# Altium integrated library TI Data Converters Analog to Digital Converter.IntLib: 2197 symbols (part 130 of 168)
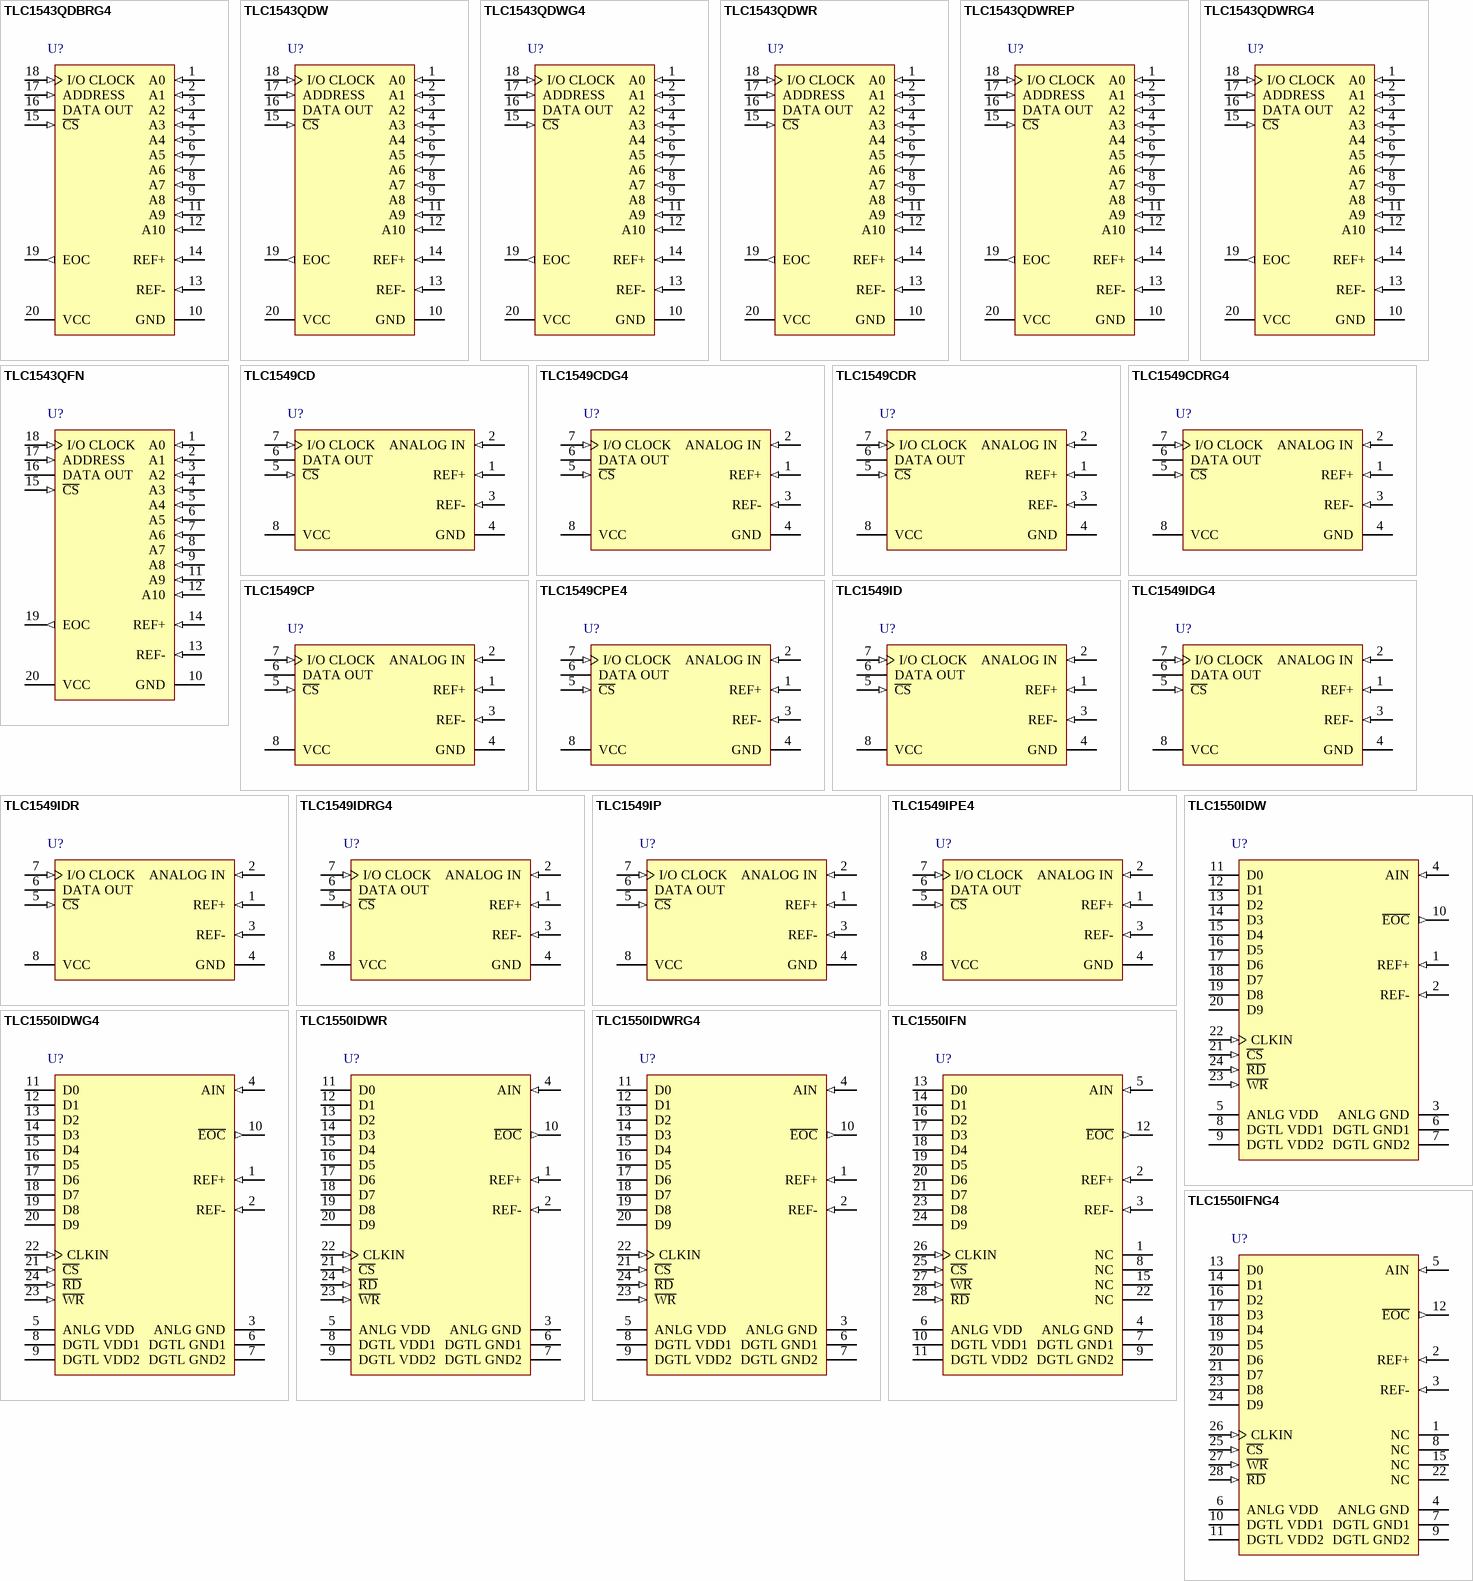
[diagram p255: symbols TLC1543QDBRG4 to TLC1550IFNG4]

## TLC1543QDWRG4
designator U?
10-Bit, 38 kSPS ADC Serial Out, On-Chip System Clock, 11 Channel, -40 to 125 degC, 20-pin SOIC (DW20), Green (RoHS & no Sb/Br); Manufacturer: Texas Instruments; PartNumber: TLC1543QDWRG4; # Input Channels: 11; Analog Voltage AV/DD(Max)(V): 5.5; Analog Voltage AV/DD(Min)(V): 4.5; Architecture: SAR; INL(Max)(+/-LSB): 1; Interface: Serial SPI; Resolution(Bits): 10; Sample Rate (max)(SPS): 38k; SubFamily: Precision ADC (<=10MSPS); DatasheetVersion: SLAS052G; PackageVersion: 4040000-4/G, 01/2011; PackageReference: DW20; PackageDescription: 20-Pin Plastic Small Outline, Body 12.8 x 7.5 mm, Pitch 1.27 mm; Supplier 1: Digi-Key; Supplier Part Number 1: TLC1543CDBRG4-ND; Supplier 2: Mouser; Supplier Part Number 2: 595-TLC1543CDBRG4; Digital Supply(Max)(V): 5.5; Digital Supply(Min)(V): 4.5; Eco-Plan: Green (RoHS & no Sb/Br); Mounting Technology: Surface Mount; Code_JEDEC: MO-013; ComponentLink1Description: Manufacturer URL; ComponentLink1URL: http://www.ti.com/; ComponentLink2Description: Datasheet; ComponentLink2URL: http://www.ti.com/general/docs/lit/getliterature.tsp?genericPartNumber=TLC1543&fileType=pdf; ComponentLink3Description: Package Specification; ComponentLink3URL: http://www.ti.com/lit/ml/mpds173a/mpds173a.pdf
footprint TI-DW20_N (SOIC, 20-Leads, Body 12.8x7.5mm, Pitch 1.27mm, IPC Medium Density)
footprint TI-DW20_L (SOIC, 20-Leads, Body 12.8x7.5mm, Pitch 1.27mm, IPC High Density)
footprint TI-DW20_M (SOIC, 20-Leads, Body 12.8x7.5mm, Pitch 1.27mm, IPC Low Density)
pins: 1 A0 (in) "Analog signal inputs. The 11 analog inputs are applied to these terminals and are internally multiplexed. The driving source impedance should be less than or equal to 1 kohm.", 2 A1 (in) "Analog signal inputs. The 11 analog inputs are applied to these terminals and are internally multiplexed. The driving source impedance should be less than or equal to 1 kohm.", 3 A2 (in) "Analog signal inputs. The 11 analog inputs are applied to these terminals and are internally multiplexed. The driving source impedance should be less than or equal to 1 kohm.", 4 A3 (in) "Analog signal inputs. The 11 analog inputs are applied to these terminals and are internally multiplexed. The driving source impedance should be less than or equal to 1 kohm.", 5 A4 (in) "Analog signal inputs. The 11 analog inputs are applied to these terminals and are internally multiplexed. The driving source impedance should be less than or equal to 1 kohm.", 6 A5 (in) "Analog signal inputs. The 11 analog inputs are applied to these terminals and are internally multiplexed. The driving source impedance should be less than or equal to 1 kohm.", 7 A6 (in) "Analog signal inputs. The 11 analog inputs are applied to these terminals and are internally multiplexed. The driving source impedance should be less than or equal to 1 kohm.", 8 A7 (in) "Analog signal inputs. The 11 analog inputs are applied to these terminals and are internally multiplexed. The driving source impedance should be less than or equal to 1 kohm.", 9 A8 (in) "Analog signal inputs. The 11 analog inputs are applied to these terminals and are internally multiplexed. The driving source impedance should be less than or equal to 1 kohm.", 10 GND (power) "The ground return terminal for the internal circuitry. Unless otherwise noted, all voltage measurements are with respect to this terminal.", 11 A9 (in) "Analog signal inputs. The 11 analog inputs are applied to these terminals and are internally multiplexed. The driving source impedance should be less than or equal to 1 kohm.", 12 A10 (in) "Analog signal inputs. The 11 analog inputs are applied to these terminals and are internally multiplexed. The driving source impedance should be less than or equal to 1 kohm.", 13 REF- (in) "The lower reference voltage value (nominally ground) is applied to this terminal.", 14 REF+ (in) "The upper reference voltage value (nominally VCC) is applied to this terminal. The maximum input voltage range is determined by the difference between the voltage applied to this terminal and the voltage applied to the REF- (See Datasheet)", 15 ~{CS} (in) "Chip select. A high-to-low transition on this input resets the internal counters and controls and enables DATA OUT, ADDRESS, and I/O CLOCK within a maximum of a setup time plus two falling edges of the internal system clock. (See Datasheet)", 16 DATA OUT (hiz) "The 3-state serial output for the A/D conversion result. This output is in the high-impedance state when C\S\ is high and active when C\S\ is low. With a valid chip select, DATA OUT is removed from the high-impedance state (See Datasheet)", 17 ADDRESS (in) "Serial address input. A 4-bit serial address selects the desired analog input or test voltage that is to be converted next. The address data is presented with the MSB first and shifts in on the first four rising edges of I/O (See Datasheet)", 18 I/O CLOCK (in) "Input/output clock. This terminal receives the serial I/O CLOCK input and performs the following four functions: 1) It clocks the four input address bits into the address register on the first four rising edges of the I/O (See Datasheet)", 19 EOC (out) "End of conversion. This output goes from a high to a low logic level on the trailing edge of the tenth I/O CLOCK and remains low until the conversion is complete and data are ready for transfer.", 20 VCC (power) "Positive supply voltage"

## TLC1543QFN
designator U?
10-Bit, 38 kSPS ADC Serial Out, On-Chip System Clock, 11 Channel, -40 to 125 degC, 20-pin PLCC (FN20), Green (RoHS & no Sb/Br); Manufacturer: Texas Instruments; PartNumber: TLC1543QFN; # Input Channels: 11; Analog Voltage AV/DD(Max)(V): 5.5; Analog Voltage AV/DD(Min)(V): 4.5; Architecture: SAR; INL(Max)(+/-LSB): 1; Interface: Serial SPI; Resolution(Bits): 10; Sample Rate (max)(SPS): 38k; SubFamily: Precision ADC (<=10MSPS); DatasheetVersion: SLAS052G; PackageVersion: 4040005/B, 03/1995; PackageReference: FN20; PackageDescription: 20-Pin Plastic Chip Carrier, Body 8.965 x 8.965 mm, Pitch 1.27 mm; Supplier 1: Digi-Key; Supplier Part Number 1: 296-1804-5-ND; Supplier 2: Farnell; Supplier Part Number 2: 4576603; Supplier 3: Newark; Supplier Part Number 3: 90B1233; Supplier 4: Mouser; Supplier Part Number 4: 595-TLC1543CDW; Digital Supply(Max)(V): 5.5; Digital Supply(Min)(V): 4.5; Eco-Plan: Green (RoHS & no Sb/Br); Mounting Technology: Surface Mount; Code_JEDEC: MS-018; ComponentLink1Description: Manufacturer URL; ComponentLink1URL: http://www.ti.com/; ComponentLink2Description: Datasheet; ComponentLink2URL: http://www.ti.com/general/docs/lit/getliterature.tsp?genericPartNumber=TLC1543&fileType=pdf; ComponentLink3Description: Package Specification; ComponentLink3URL: http://www.ti.com/litv/pdf/mplc004a
footprint TI-FN20_N (PLCC, 20-Leads, Body 8.965x8.965mm, Pitch 1.27mm, IPC Medium Density)
footprint TI-FN20_L (PLCC, 20-Leads, Body 8.965x8.965mm, Pitch 1.27mm, IPC High Density)
footprint TI-FN20_M (PLCC, 20-Leads, Body 8.965x8.965mm, Pitch 1.27mm, IPC Low Density)
pins: 1 A0 (in) "Analog signal inputs. The 11 analog inputs are applied to these terminals and are internally multiplexed. The driving source impedance should be less than or equal to 1 kohm.", 2 A1 (in) "Analog signal inputs. The 11 analog inputs are applied to these terminals and are internally multiplexed. The driving source impedance should be less than or equal to 1 kohm.", 3 A2 (in) "Analog signal inputs. The 11 analog inputs are applied to these terminals and are internally multiplexed. The driving source impedance should be less than or equal to 1 kohm.", 4 A3 (in) "Analog signal inputs. The 11 analog inputs are applied to these terminals and are internally multiplexed. The driving source impedance should be less than or equal to 1 kohm.", 5 A4 (in) "Analog signal inputs. The 11 analog inputs are applied to these terminals and are internally multiplexed. The driving source impedance should be less than or equal to 1 kohm.", 6 A5 (in) "Analog signal inputs. The 11 analog inputs are applied to these terminals and are internally multiplexed. The driving source impedance should be less than or equal to 1 kohm.", 7 A6 (in) "Analog signal inputs. The 11 analog inputs are applied to these terminals and are internally multiplexed. The driving source impedance should be less than or equal to 1 kohm.", 8 A7 (in) "Analog signal inputs. The 11 analog inputs are applied to these terminals and are internally multiplexed. The driving source impedance should be less than or equal to 1 kohm.", 9 A8 (in) "Analog signal inputs. The 11 analog inputs are applied to these terminals and are internally multiplexed. The driving source impedance should be less than or equal to 1 kohm.", 10 GND (power) "The ground return terminal for the internal circuitry. Unless otherwise noted, all voltage measurements are with respect to this terminal.", 11 A9 (in) "Analog signal inputs. The 11 analog inputs are applied to these terminals and are internally multiplexed. The driving source impedance should be less than or equal to 1 kohm.", 12 A10 (in) "Analog signal inputs. The 11 analog inputs are applied to these terminals and are internally multiplexed. The driving source impedance should be less than or equal to 1 kohm.", 13 REF- (in) "The lower reference voltage value (nominally ground) is applied to this terminal.", 14 REF+ (in) "The upper reference voltage value (nominally VCC) is applied to this terminal. The maximum input voltage range is determined by the difference between the voltage applied to this terminal and the voltage applied to the REF- (See Datasheet)", 15 ~{CS} (in) "Chip select. A high-to-low transition on this input resets the internal counters and controls and enables DATA OUT, ADDRESS, and I/O CLOCK within a maximum of a setup time plus two falling edges of the internal system clock. (See Datasheet)", 16 DATA OUT (hiz) "The 3-state serial output for the A/D conversion result. This output is in the high-impedance state when C\S\ is high and active when C\S\ is low. With a valid chip select, DATA OUT is removed from the high-impedance state (See Datasheet)", 17 ADDRESS (in) "Serial address input. A 4-bit serial address selects the desired analog input or test voltage that is to be converted next. The address data is presented with the MSB first and shifts in on the first four rising edges of I/O (See Datasheet)", 18 I/O CLOCK (in) "Input/output clock. This terminal receives the serial I/O CLOCK input and performs the following four functions: 1) It clocks the four input address bits into the address register on the first four rising edges of the I/O (See Datasheet)", 19 EOC (out) "End of conversion. This output goes from a high to a low logic level on the trailing edge of the tenth I/O CLOCK and remains low until the conversion is complete and data are ready for transfer.", 20 VCC (power) "Positive supply voltage"

## TLC1549CD
designator U?
10-Bit, 38 kSPS ADC Serial Out, On-Chip System Clock, Single Channel, 0 to 70 degC, 8-pin SOIC (D8), Green (RoHS & no Sb/Br); Manufacturer: Texas Instruments; PartNumber: TLC1549CD; # Input Channels: 1; Analog Voltage AV/DD(Max)(V): 5.5; Analog Voltage AV/DD(Min)(V): 4.5; Architecture: SAR; Interface: Serial SPI; Resolution(Bits): 10; Sample Rate (max)(SPS): 38k; SubFamily: Low Power, 8-Bit, Dual 1.5 GSPS or Single 3.0 GSPS A/D Converter; DatasheetVersion: SLAS059C; PackageVersion: 4040047-3/M, 06/2011; PackageReference: D8; PackageDescription: 8-Pin Plastic Small Outline, Body 4.9 x 3.9 mm, Pitch 1.27 mm; Supplier 1: Digi-Key; Supplier Part Number 1: TLC1543CDWG4-ND; Supplier 2: Farnell; Supplier Part Number 2: 1234645; Supplier 3: Newark; Supplier Part Number 3: 13M3126; Supplier 4: Mouser; Supplier Part Number 4: 595-TLC1543CDWG4; Digital Supply(Max)(V): 5.5; Digital Supply(Min)(V): 4.5; Eco-Plan: Green (RoHS & no Sb/Br); INL(Max)(+/-LSB): 1; Mounting Technology: Surface Mount; Code_JEDEC: MS-012; ComponentLink1Description: Manufacturer URL; ComponentLink1URL: http://www.ti.com/; ComponentLink2Description: Datasheet; ComponentLink2URL: http://www.ti.com/general/docs/lit/getliterature.tsp?genericPartNumber=TLC1549&fileType=pdf; ComponentLink3Description: Package Specification; ComponentLink3URL: http://www.ti.com/litv/pdf/msoi002j
footprint TI-D8_N (SOIC, 8-Leads, Body 4.9x3.9mm, Pitch 1.27mm, IPC Medium Density)
footprint TI-D8_L (SOIC, 8-Leads, Body 4.9x3.9mm, Pitch 1.27mm, IPC High Density)
footprint TI-D8_M (SOIC, 8-Leads, Body 4.9x3.9mm, Pitch 1.27mm, IPC Low Density)
pins: 1 REF+ (in), 2 ANALOG IN (in), 3 REF- (in), 4 GND (power), 5 ~{CS} (in), 6 DATA OUT (hiz), 7 I/O CLOCK (in), 8 VCC (power)

## TLC1549CDG4
designator U?
10-Bit, 38 kSPS ADC Serial Out, On-Chip System Clock, Single Channel, 0 to 70 degC, 8-pin SOIC (D8), Green (RoHS & no Sb/Br); Manufacturer: Texas Instruments; PartNumber: TLC1549CDG4; # Input Channels: 1; Analog Voltage AV/DD(Max)(V): 5.5; Analog Voltage AV/DD(Min)(V): 4.5; Architecture: SAR; Interface: Serial SPI; Resolution(Bits): 10; Sample Rate (max)(SPS): 38k; SubFamily: Low Power, 8-Bit, Dual 1.5 GSPS or Single 3.0 GSPS A/D Converter; DatasheetVersion: SLAS059C; PackageVersion: 4040047-3/M, 06/2011; PackageReference: D8; PackageDescription: 8-Pin Plastic Small Outline, Body 4.9 x 3.9 mm, Pitch 1.27 mm; Supplier 1: Digi-Key; Supplier Part Number 1: 296-1804-2-ND; Supplier 2: Digi-Key; Supplier Part Number 2: 296-1804-1-ND; Supplier 3: Digi-Key; Supplier Part Number 3: 296-1804-6-ND; Supplier 4: Mouser; Supplier Part Number 4: 595-TLC1543CDWR; Digital Supply(Max)(V): 5.5; Digital Supply(Min)(V): 4.5; Eco-Plan: Green (RoHS & no Sb/Br); INL(Max)(+/-LSB): 1; Mounting Technology: Surface Mount; Code_JEDEC: MS-012; ComponentLink1Description: Manufacturer URL; ComponentLink1URL: http://www.ti.com/; ComponentLink2Description: Datasheet; ComponentLink2URL: http://www.ti.com/general/docs/lit/getliterature.tsp?genericPartNumber=TLC1549&fileType=pdf; ComponentLink3Description: Package Specification; ComponentLink3URL: http://www.ti.com/litv/pdf/msoi002j
footprint TI-D8_N (SOIC, 8-Leads, Body 4.9x3.9mm, Pitch 1.27mm, IPC Medium Density)
footprint TI-D8_L (SOIC, 8-Leads, Body 4.9x3.9mm, Pitch 1.27mm, IPC High Density)
footprint TI-D8_M (SOIC, 8-Leads, Body 4.9x3.9mm, Pitch 1.27mm, IPC Low Density)
pins: 1 REF+ (in), 2 ANALOG IN (in), 3 REF- (in), 4 GND (power), 5 ~{CS} (in), 6 DATA OUT (hiz), 7 I/O CLOCK (in), 8 VCC (power)

## TLC1549CDR
designator U?
10-Bit, 38 kSPS ADC Serial Out, On-Chip System Clock, Single Channel, 0 to 70 degC, 8-pin SOIC (D8), Green (RoHS & no Sb/Br); Manufacturer: Texas Instruments; PartNumber: TLC1549CDR; # Input Channels: 1; Analog Voltage AV/DD(Max)(V): 5.5; Analog Voltage AV/DD(Min)(V): 4.5; Architecture: SAR; Interface: Serial SPI; Resolution(Bits): 10; Sample Rate (max)(SPS): 38k; SubFamily: Low Power, 8-Bit, Dual 1.5 GSPS or Single 3.0 GSPS A/D Converter; DatasheetVersion: SLAS059C; PackageVersion: 4040047-3/M, 06/2011; PackageReference: D8; PackageDescription: 8-Pin Plastic Small Outline, Body 4.9 x 3.9 mm, Pitch 1.27 mm; Supplier 1: Digi-Key; Supplier Part Number 1: TLC1543CDWRG4-ND; Supplier 2: Mouser; Supplier Part Number 2: 595-TLC1543CDWRG4; Digital Supply(Max)(V): 5.5; Digital Supply(Min)(V): 4.5; Eco-Plan: Green (RoHS & no Sb/Br); INL(Max)(+/-LSB): 1; Mounting Technology: Surface Mount; Code_JEDEC: MS-012; ComponentLink1Description: Manufacturer URL; ComponentLink1URL: http://www.ti.com/; ComponentLink2Description: Datasheet; ComponentLink2URL: http://www.ti.com/general/docs/lit/getliterature.tsp?genericPartNumber=TLC1549&fileType=pdf; ComponentLink3Description: Package Specification; ComponentLink3URL: http://www.ti.com/litv/pdf/msoi002j
footprint TI-D8_N (SOIC, 8-Leads, Body 4.9x3.9mm, Pitch 1.27mm, IPC Medium Density)
footprint TI-D8_L (SOIC, 8-Leads, Body 4.9x3.9mm, Pitch 1.27mm, IPC High Density)
footprint TI-D8_M (SOIC, 8-Leads, Body 4.9x3.9mm, Pitch 1.27mm, IPC Low Density)
pins: 1 REF+ (in), 2 ANALOG IN (in), 3 REF- (in), 4 GND (power), 5 ~{CS} (in), 6 DATA OUT (hiz), 7 I/O CLOCK (in), 8 VCC (power)

## TLC1549CDRG4
designator U?
10-Bit, 38 kSPS ADC Serial Out, On-Chip System Clock, Single Channel, 0 to 70 degC, 8-pin SOIC (D8), Green (RoHS & no Sb/Br); Manufacturer: Texas Instruments; PartNumber: TLC1549CDRG4; # Input Channels: 1; Analog Voltage AV/DD(Max)(V): 5.5; Analog Voltage AV/DD(Min)(V): 4.5; Architecture: SAR; Interface: Serial SPI; Resolution(Bits): 10; Sample Rate (max)(SPS): 38k; SubFamily: Low Power, 8-Bit, Dual 1.5 GSPS or Single 3.0 GSPS A/D Converter; DatasheetVersion: SLAS059C; PackageVersion: 4040047-3/M, 06/2011; PackageReference: D8; PackageDescription: 8-Pin Plastic Small Outline, Body 4.9 x 3.9 mm, Pitch 1.27 mm; Supplier 1: Digi-Key; Supplier Part Number 1: 296-1805-5-ND; Supplier 2: Mouser; Supplier Part Number 2: 595-TLC1543CFN; Digital Supply(Max)(V): 5.5; Digital Supply(Min)(V): 4.5; Eco-Plan: Green (RoHS & no Sb/Br); INL(Max)(+/-LSB): 1; Mounting Technology: Surface Mount; Code_JEDEC: MS-012; ComponentLink1Description: Manufacturer URL; ComponentLink1URL: http://www.ti.com/; ComponentLink2Description: Datasheet; ComponentLink2URL: http://www.ti.com/general/docs/lit/getliterature.tsp?genericPartNumber=TLC1549&fileType=pdf; ComponentLink3Description: Package Specification; ComponentLink3URL: http://www.ti.com/litv/pdf/msoi002j
footprint TI-D8_N (SOIC, 8-Leads, Body 4.9x3.9mm, Pitch 1.27mm, IPC Medium Density)
footprint TI-D8_L (SOIC, 8-Leads, Body 4.9x3.9mm, Pitch 1.27mm, IPC High Density)
footprint TI-D8_M (SOIC, 8-Leads, Body 4.9x3.9mm, Pitch 1.27mm, IPC Low Density)
pins: 1 REF+ (in), 2 ANALOG IN (in), 3 REF- (in), 4 GND (power), 5 ~{CS} (in), 6 DATA OUT (hiz), 7 I/O CLOCK (in), 8 VCC (power)

## TLC1549CP
designator U?
10-Bit, 38 kSPS ADC Serial Out, On-Chip System Clock, Single Channel, 0 to 70 degC, 8-pin DIP (P8), Green (RoHS & no Sb/Br); Manufacturer: Texas Instruments; PartNumber: TLC1549CP; # Input Channels: 1; Analog Voltage AV/DD(Max)(V): 5.5; Analog Voltage AV/DD(Min)(V): 4.5; Architecture: SAR; Interface: Serial SPI; Resolution(Bits): 10; Sample Rate (max)(SPS): 38k; SubFamily: Low Power, 8-Bit, Dual 1.5 GSPS or Single 3.0 GSPS A/D Converter; DatasheetVersion: SLAS059C; PackageVersion: 4040082/E, 04/2010; PackageReference: P8; PackageDescription: 8-Pin Plastic In-Line, Body 9.59 x 6.35 mm, Pitch 2.54 mm; Supplier 1: Digi-Key; Supplier Part Number 1: TLC1543CFNG3-ND; Supplier 2: Mouser; Supplier Part Number 2: 595-TLC1543CFNG3; Digital Supply(Max)(V): 5.5; Digital Supply(Min)(V): 4.5; Eco-Plan: Green (RoHS & no Sb/Br); INL(Max)(+/-LSB): 1; Mounting Technology: Through Hole; Code_JEDEC: MS-001; ComponentLink1Description: Manufacturer URL; ComponentLink1URL: http://www.ti.com/; ComponentLink2Description: Datasheet; ComponentLink2URL: http://www.ti.com/general/docs/lit/getliterature.tsp?genericPartNumber=TLC1549&fileType=pdf; ComponentLink3Description: Package Specification; ComponentLink3URL: http://www.ti.com/litv/pdf/mpdi001b
footprint TI-P8 (DIP, 8-Leads, Body 9.59x6.35mm, Pitch 2.54mm)
pins: 1 REF+ (in), 2 ANALOG IN (in), 3 REF- (in), 4 GND (power), 5 ~{CS} (in), 6 DATA OUT (hiz), 7 I/O CLOCK (in), 8 VCC (power)

## TLC1549CPE4
designator U?
10-Bit, 38 kSPS ADC Serial Out, On-Chip System Clock, Single Channel, 0 to 70 degC, 8-pin DIP (P8), Green (RoHS & no Sb/Br); Manufacturer: Texas Instruments; PartNumber: TLC1549CPE4; # Input Channels: 1; Analog Voltage AV/DD(Max)(V): 5.5; Analog Voltage AV/DD(Min)(V): 4.5; Architecture: SAR; Interface: Serial SPI; Resolution(Bits): 10; Sample Rate (max)(SPS): 38k; SubFamily: Low Power, 8-Bit, Dual 1.5 GSPS or Single 3.0 GSPS A/D Converter; DatasheetVersion: SLAS059C; PackageVersion: 4040082/E, 04/2010; PackageReference: P8; PackageDescription: 8-Pin Plastic In-Line, Body 9.59 x 6.35 mm, Pitch 2.54 mm; Supplier 1: Digi-Key; Supplier Part Number 1: TLC1543CFNR-ND; Supplier 2: Mouser; Supplier Part Number 2: 595-TLC1543CFNR; Digital Supply(Max)(V): 5.5; Digital Supply(Min)(V): 4.5; Eco-Plan: Green (RoHS & no Sb/Br); INL(Max)(+/-LSB): 1; Mounting Technology: Through Hole; Code_JEDEC: MS-001; ComponentLink1Description: Manufacturer URL; ComponentLink1URL: http://www.ti.com/; ComponentLink2Description: Datasheet; ComponentLink2URL: http://www.ti.com/general/docs/lit/getliterature.tsp?genericPartNumber=TLC1549&fileType=pdf; ComponentLink3Description: Package Specification; ComponentLink3URL: http://www.ti.com/litv/pdf/mpdi001b
footprint TI-P8 (DIP, 8-Leads, Body 9.59x6.35mm, Pitch 2.54mm)
pins: 1 REF+ (in), 2 ANALOG IN (in), 3 REF- (in), 4 GND (power), 5 ~{CS} (in), 6 DATA OUT (hiz), 7 I/O CLOCK (in), 8 VCC (power)

## TLC1549ID
designator U?
10-Bit, 38 kSPS ADC Serial Out, On-Chip System Clock, Single Channel, -40 to 85 degC, 8-pin SOIC (D8), Green (RoHS & no Sb/Br); Manufacturer: Texas Instruments; PartNumber: TLC1549ID; # Input Channels: 1; Analog Voltage AV/DD(Max)(V): 5.5; Analog Voltage AV/DD(Min)(V): 4.5; Architecture: SAR; Interface: Serial SPI; Resolution(Bits): 10; Sample Rate (max)(SPS): 38k; SubFamily: Low Power, 8-Bit, Dual 1.5 GSPS or Single 3.0 GSPS A/D Converter; DatasheetVersion: SLAS059C; PackageVersion: 4040047-3/M, 06/2011; PackageReference: D8; PackageDescription: 8-Pin Plastic Small Outline, Body 4.9 x 3.9 mm, Pitch 1.27 mm; Supplier 1: Digi-Key; Supplier Part Number 1: TLC1543CFNRG3-ND; Supplier 2: Mouser; Supplier Part Number 2: 595-TLC1543CFNRG3; Digital Supply(Max)(V): 5.5; Digital Supply(Min)(V): 4.5; Eco-Plan: Green (RoHS & no Sb/Br); INL(Max)(+/-LSB): 1; Mounting Technology: Surface Mount; Code_JEDEC: MS-012; ComponentLink1Description: Manufacturer URL; ComponentLink1URL: http://www.ti.com/; ComponentLink2Description: Datasheet; ComponentLink2URL: http://www.ti.com/general/docs/lit/getliterature.tsp?genericPartNumber=TLC1549&fileType=pdf; ComponentLink3Description: Package Specification; ComponentLink3URL: http://www.ti.com/litv/pdf/msoi002j
footprint TI-D8_N (SOIC, 8-Leads, Body 4.9x3.9mm, Pitch 1.27mm, IPC Medium Density)
footprint TI-D8_L (SOIC, 8-Leads, Body 4.9x3.9mm, Pitch 1.27mm, IPC High Density)
footprint TI-D8_M (SOIC, 8-Leads, Body 4.9x3.9mm, Pitch 1.27mm, IPC Low Density)
pins: 1 REF+ (in), 2 ANALOG IN (in), 3 REF- (in), 4 GND (power), 5 ~{CS} (in), 6 DATA OUT (hiz), 7 I/O CLOCK (in), 8 VCC (power)

## TLC1549IDG4
designator U?
10-Bit, 38 kSPS ADC Serial Out, On-Chip System Clock, Single Channel, -40 to 85 degC, 8-pin SOIC (D8), Green (RoHS & no Sb/Br); Manufacturer: Texas Instruments; PartNumber: TLC1549IDG4; # Input Channels: 1; Analog Voltage AV/DD(Max)(V): 5.5; Analog Voltage AV/DD(Min)(V): 4.5; Architecture: SAR; Interface: Serial SPI; Resolution(Bits): 10; Sample Rate (max)(SPS): 38k; SubFamily: Low Power, 8-Bit, Dual 1.5 GSPS or Single 3.0 GSPS A/D Converter; DatasheetVersion: SLAS059C; PackageVersion: 4040047-3/M, 06/2011; PackageReference: D8; PackageDescription: 8-Pin Plastic Small Outline, Body 4.9 x 3.9 mm, Pitch 1.27 mm; Supplier 1: Digi-Key; Supplier Part Number 1: 296-2885-5-ND; Supplier 2: Farnell; Supplier Part Number 2: 8453756; Supplier 3: Newark; Supplier Part Number 3: 35K1175; Supplier 4: Mouser; Supplier Part Number 4: 595-TLC1543CN; Digital Supply(Max)(V): 5.5; Digital Supply(Min)(V): 4.5; Eco-Plan: Green (RoHS & no Sb/Br); INL(Max)(+/-LSB): 1; Mounting Technology: Surface Mount; Code_JEDEC: MS-012; ComponentLink1Description: Manufacturer URL; ComponentLink1URL: http://www.ti.com/; ComponentLink2Description: Datasheet; ComponentLink2URL: http://www.ti.com/general/docs/lit/getliterature.tsp?genericPartNumber=TLC1549&fileType=pdf; ComponentLink3Description: Package Specification; ComponentLink3URL: http://www.ti.com/litv/pdf/msoi002j
footprint TI-D8_N (SOIC, 8-Leads, Body 4.9x3.9mm, Pitch 1.27mm, IPC Medium Density)
footprint TI-D8_L (SOIC, 8-Leads, Body 4.9x3.9mm, Pitch 1.27mm, IPC High Density)
footprint TI-D8_M (SOIC, 8-Leads, Body 4.9x3.9mm, Pitch 1.27mm, IPC Low Density)
pins: 1 REF+ (in), 2 ANALOG IN (in), 3 REF- (in), 4 GND (power), 5 ~{CS} (in), 6 DATA OUT (hiz), 7 I/O CLOCK (in), 8 VCC (power)

## TLC1549IDR
designator U?
10-Bit, 38 kSPS ADC Serial Out, On-Chip System Clock, Single Channel, -40 to 85 degC, 8-pin SOIC (D8), Green (RoHS & no Sb/Br); Manufacturer: Texas Instruments; PartNumber: TLC1549IDR; # Input Channels: 1; Analog Voltage AV/DD(Max)(V): 5.5; Analog Voltage AV/DD(Min)(V): 4.5; Architecture: SAR; Interface: Serial SPI; Resolution(Bits): 10; Sample Rate (max)(SPS): 38k; SubFamily: Low Power, 8-Bit, Dual 1.5 GSPS or Single 3.0 GSPS A/D Converter; DatasheetVersion: SLAS059C; PackageVersion: 4040047-3/M, 06/2011; PackageReference: D8; PackageDescription: 8-Pin Plastic Small Outline, Body 4.9 x 3.9 mm, Pitch 1.27 mm; Supplier 1: Digi-Key; Supplier Part Number 1: TLC1543CNE4-ND; Supplier 2: Mouser; Supplier Part Number 2: 595-TLC1543CNE4; Digital Supply(Max)(V): 5.5; Digital Supply(Min)(V): 4.5; Eco-Plan: Green (RoHS & no Sb/Br); INL(Max)(+/-LSB): 1; Mounting Technology: Surface Mount; Code_JEDEC: MS-012; ComponentLink1Description: Manufacturer URL; ComponentLink1URL: http://www.ti.com/; ComponentLink2Description: Datasheet; ComponentLink2URL: http://www.ti.com/general/docs/lit/getliterature.tsp?genericPartNumber=TLC1549&fileType=pdf; ComponentLink3Description: Package Specification; ComponentLink3URL: http://www.ti.com/litv/pdf/msoi002j
footprint TI-D8_N (SOIC, 8-Leads, Body 4.9x3.9mm, Pitch 1.27mm, IPC Medium Density)
footprint TI-D8_L (SOIC, 8-Leads, Body 4.9x3.9mm, Pitch 1.27mm, IPC High Density)
footprint TI-D8_M (SOIC, 8-Leads, Body 4.9x3.9mm, Pitch 1.27mm, IPC Low Density)
pins: 1 REF+ (in), 2 ANALOG IN (in), 3 REF- (in), 4 GND (power), 5 ~{CS} (in), 6 DATA OUT (hiz), 7 I/O CLOCK (in), 8 VCC (power)

## TLC1549IDRG4
designator U?
10-Bit, 38 kSPS ADC Serial Out, On-Chip System Clock, Single Channel, -40 to 85 degC, 8-pin SOIC (D8), Green (RoHS & no Sb/Br); Manufacturer: Texas Instruments; PartNumber: TLC1549IDRG4; # Input Channels: 1; Analog Voltage AV/DD(Max)(V): 5.5; Analog Voltage AV/DD(Min)(V): 4.5; Architecture: SAR; Interface: Serial SPI; Resolution(Bits): 10; Sample Rate (max)(SPS): 38k; SubFamily: Low Power, 8-Bit, Dual 1.5 GSPS or Single 3.0 GSPS A/D Converter; DatasheetVersion: SLAS059C; PackageVersion: 4040047-3/M, 06/2011; PackageReference: D8; PackageDescription: 8-Pin Plastic Small Outline, Body 4.9 x 3.9 mm, Pitch 1.27 mm; Supplier 1: Digi-Key; Supplier Part Number 1: 296-34332-5-ND; Supplier 2: Newark; Supplier Part Number 2: 90B1253; Supplier 3: Mouser; Supplier Part Number 3: 595-TLC1543IDB; Digital Supply(Max)(V): 5.5; Digital Supply(Min)(V): 4.5; Eco-Plan: Green (RoHS & no Sb/Br); INL(Max)(+/-LSB): 1; Mounting Technology: Surface Mount; Code_JEDEC: MS-012; ComponentLink1Description: Manufacturer URL; ComponentLink1URL: http://www.ti.com/; ComponentLink2Description: Datasheet; ComponentLink2URL: http://www.ti.com/general/docs/lit/getliterature.tsp?genericPartNumber=TLC1549&fileType=pdf; ComponentLink3Description: Package Specification; ComponentLink3URL: http://www.ti.com/litv/pdf/msoi002j
footprint TI-D8_N (SOIC, 8-Leads, Body 4.9x3.9mm, Pitch 1.27mm, IPC Medium Density)
footprint TI-D8_L (SOIC, 8-Leads, Body 4.9x3.9mm, Pitch 1.27mm, IPC High Density)
footprint TI-D8_M (SOIC, 8-Leads, Body 4.9x3.9mm, Pitch 1.27mm, IPC Low Density)
pins: 1 REF+ (in), 2 ANALOG IN (in), 3 REF- (in), 4 GND (power), 5 ~{CS} (in), 6 DATA OUT (hiz), 7 I/O CLOCK (in), 8 VCC (power)

## TLC1549IP
designator U?
10-Bit, 38 kSPS ADC Serial Out, On-Chip System Clock, Single Channel, -40 to 85 degC, 8-pin DIP (P8), Green (RoHS & no Sb/Br); Manufacturer: Texas Instruments; PartNumber: TLC1549IP; # Input Channels: 1; Analog Voltage AV/DD(Max)(V): 5.5; Analog Voltage AV/DD(Min)(V): 4.5; Architecture: SAR; Interface: Serial SPI; Resolution(Bits): 10; Sample Rate (max)(SPS): 38k; SubFamily: Low Power, 8-Bit, Dual 1.5 GSPS or Single 3.0 GSPS A/D Converter; DatasheetVersion: SLAS059C; PackageVersion: 4040082/E, 04/2010; PackageReference: P8; PackageDescription: 8-Pin Plastic In-Line, Body 9.59 x 6.35 mm, Pitch 2.54 mm; Supplier 1: Digi-Key; Supplier Part Number 1: TLC1543IDBG4-ND; Supplier 2: Mouser; Supplier Part Number 2: 595-TLC1543IDBG4; Digital Supply(Max)(V): 5.5; Digital Supply(Min)(V): 4.5; Eco-Plan: Green (RoHS & no Sb/Br); INL(Max)(+/-LSB): 1; Mounting Technology: Through Hole; Code_JEDEC: MS-001; ComponentLink1Description: Manufacturer URL; ComponentLink1URL: http://www.ti.com/; ComponentLink2Description: Datasheet; ComponentLink2URL: http://www.ti.com/general/docs/lit/getliterature.tsp?genericPartNumber=TLC1549&fileType=pdf; ComponentLink3Description: Package Specification; ComponentLink3URL: http://www.ti.com/litv/pdf/mpdi001b
footprint TI-P8 (DIP, 8-Leads, Body 9.59x6.35mm, Pitch 2.54mm)
pins: 1 REF+ (in), 2 ANALOG IN (in), 3 REF- (in), 4 GND (power), 5 ~{CS} (in), 6 DATA OUT (hiz), 7 I/O CLOCK (in), 8 VCC (power)

## TLC1549IPE4
designator U?
10-Bit, 38 kSPS ADC Serial Out, On-Chip System Clock, Single Channel, -40 to 85 degC, 8-pin DIP (P8), Green (RoHS & no Sb/Br); Manufacturer: Texas Instruments; PartNumber: TLC1549IPE4; # Input Channels: 1; Analog Voltage AV/DD(Max)(V): 5.5; Analog Voltage AV/DD(Min)(V): 4.5; Architecture: SAR; Interface: Serial SPI; Resolution(Bits): 10; Sample Rate (max)(SPS): 38k; SubFamily: Low Power, 8-Bit, Dual 1.5 GSPS or Single 3.0 GSPS A/D Converter; DatasheetVersion: SLAS059C; PackageVersion: 4040082/E, 04/2010; PackageReference: P8; PackageDescription: 8-Pin Plastic In-Line, Body 9.59 x 6.35 mm, Pitch 2.54 mm; Supplier 1: Digi-Key; Supplier Part Number 1: TLC1543IDBR-ND; Supplier 2: Newark; Supplier Part Number 2: 90B1268; Supplier 3: Mouser; Supplier Part Number 3: 595-TLC1543IDBR; Digital Supply(Max)(V): 5.5; Digital Supply(Min)(V): 4.5; Eco-Plan: Green (RoHS & no Sb/Br); INL(Max)(+/-LSB): 1; Mounting Technology: Through Hole; Code_JEDEC: MS-001; ComponentLink1Description: Manufacturer URL; ComponentLink1URL: http://www.ti.com/; ComponentLink2Description: Datasheet; ComponentLink2URL: http://www.ti.com/general/docs/lit/getliterature.tsp?genericPartNumber=TLC1549&fileType=pdf; ComponentLink3Description: Package Specification; ComponentLink3URL: http://www.ti.com/litv/pdf/mpdi001b
footprint TI-P8 (DIP, 8-Leads, Body 9.59x6.35mm, Pitch 2.54mm)
pins: 1 REF+ (in), 2 ANALOG IN (in), 3 REF- (in), 4 GND (power), 5 ~{CS} (in), 6 DATA OUT (hiz), 7 I/O CLOCK (in), 8 VCC (power)

## TLC1550IDW
designator U?
10-Bit, 164 kSPS ADC Parallel Out, Direct I/F to DSP / uProcessor, 10 Channel, -40 to 85 degC, 24-pin SOIC (DW24), Green (RoHS & no Sb/Br); Manufacturer: Texas Instruments; PartNumber: TLC1550IDW; # Input Channels: 1; Analog Voltage AV/DD(Max)(V): 5.5; Analog Voltage AV/DD(Min)(V): 4.75; Architecture: SAR; INL(Max)(+/-LSB): 0.5; Interface: Parallel CMOS; Resolution(Bits): 10; Sample Rate (max)(SPS): 164k; SubFamily: Precision ADC (<=10MSPS); DatasheetVersion: SLAS043G; PackageVersion: 4040000-5/G, 01/2011; PackageReference: DW24; PackageDescription: 24-Pin Plastic Small Outline, Body 15.4 x 7.5 mm, Pitch 1.27 mm; Supplier 1: Digi-Key; Supplier Part Number 1: TLC1543IDBRG4-ND; Supplier 2: Mouser; Supplier Part Number 2: 595-TLC1543IDBRG4; Digital Supply(Max)(V): 5.5; Digital Supply(Min)(V): 4.75; Eco-Plan: Green (RoHS & no Sb/Br); Mounting Technology: Surface Mount; Code_JEDEC: MS-013; ComponentLink1Description: Manufacturer URL; ComponentLink1URL: http://www.ti.com/; ComponentLink2Description: Datasheet; ComponentLink2URL: http://www.ti.com/general/docs/lit/getliterature.tsp?genericPartNumber=TLC1550&fileType=pdf; ComponentLink3Description: Package Specification; ComponentLink3URL: http://www.ti.com/litv/pdf/mpds174a
footprint TI-DW24_N (SOIC, 24-Leads, Body 15.4x7.5mm, Pitch 1.27mm, IPC Medium Density)
footprint TI-DW24_L (SOIC, 24-Leads, Body 15.4x7.5mm, Pitch 1.27mm, IPC High Density)
footprint TI-DW24_M (SOIC, 24-Leads, Body 15.4x7.5mm, Pitch 1.27mm, IPC Low Density)
pins: 1 REF+ (in) "Positive voltage-reference input. Any analog input that is greater than or equal to the voltage on REF+ converts to 1111111111. Analog input voltages between REF+ and REF- convert to the appropriate result in a ratiometric (See Datasheet)", 2 REF- (in) "Negative voltage reference input. Any analog input that is less than or equal to the voltage on REF- converts to 0000000000.", 3 ANLG GND (power) "Analog ground. The reference point for the voltage applied on terminals ANLG VDD, AIN, REF+, and REF-.", 4 AIN (in) "Analog voltage input. The voltage applied to AIN is converted to the equivalent digital output.", 5 ANLG VDD (power) "Analog positive power supply voltage. The voltage applied to this terminal is designated VDD3.", 6 DGTL GND1 (power) "Digital ground 1. The ground for power supply DGTL VDD1 and is the substrate connection", 7 DGTL GND2 (power) "Digital ground 2. The ground for power supply DGTL VDD2", 8 DGTL VDD1 (power) "Digital positive power-supply voltage 1. DGTL VDD1 supplies the logic. The voltage applied to DGTL VDD1 is designated VDD1.", 9 DGTL VDD2 (power) "Digital positive power-supply voltage 2. DGTL VDD2 supplies only the higher-current output buffers. The voltage applied to DGTL VDD2 is designated VDD2.", 10 ~{EOC} (out) "End-of-conversion. E\O\C\ goes low indicating that conversion is complete and the results have been transferred to the output latch. E\O\C\ can be connected to the uP- or DSP-interrupt terminal or can be continuously polled", 11 D0 (hiz) "Data bus output. D0 is bit 1 (LSB).", 12 D1 (hiz) "Data bus output. D1 is bit 2.", 13 D2 (hiz) "Data bus output. D2 is bit 3.", 14 D3 (hiz) "Data bus output. D3 is bit 4.", 15 D4 (hiz) "Data bus output. D4 is bit 5.", 16 D5 (hiz) "Data bus output. D5 is bit 6.", 17 D6 (hiz) "Data bus output. D6 is bit 7.", 18 D7 (hiz) "Data bus output. D7 is bit 8.", 19 D8 (hiz) "Data bus output. D8 is bit 9.", 20 D9 (hiz) "Data bus output. D9 is bit 10 (MSB).", 21 ~{CS} (in) "Chip-select. C\S\ must be low for R\D\ or W\R\ to be recognized by the A/D converter.", 22 CLKIN (in) "Clock input. CLKIN is used for external clocking instead of using the internal system clock. It usually takes a few microseconds before the internal clock is disabled. To use the internal clock, CLKIN should be tied high or (See Datasheet)", 23 ~{WR} (in) "Write input. When C\S\ is low, conversion is started on the rising edge of W\R\. On this rising edge, the ADC holds the analog input until conversion is completed. Before and after the conversion period, which is given by (See Datasheet)", 24 ~{RD} (in) "Read input. When C\S\ is low and R\D\ is taken low, the data is placed on the data bus from the output latch. The output latch stores the conversion results at the most recent negative edge of E\O\C\. The falling edge of (See Datasheet)"

## TLC1550IDWG4
designator U?
10-Bit, 164 kSPS ADC Parallel Out, Direct I/F to DSP / uProcessor, 10 Channel, -40 to 85 degC, 24-pin SOIC (DW24), Green (RoHS & no Sb/Br); Manufacturer: Texas Instruments; PartNumber: TLC1550IDWG4; # Input Channels: 1; Analog Voltage AV/DD(Max)(V): 5.5; Analog Voltage AV/DD(Min)(V): 4.75; Architecture: SAR; INL(Max)(+/-LSB): 0.5; Interface: Parallel CMOS; Resolution(Bits): 10; Sample Rate (max)(SPS): 164k; SubFamily: Precision ADC (<=10MSPS); DatasheetVersion: SLAS043G; PackageVersion: 4040000-5/G, 01/2011; PackageReference: DW24; PackageDescription: 24-Pin Plastic Small Outline, Body 15.4 x 7.5 mm, Pitch 1.27 mm; Supplier 1: Digi-Key; Supplier Part Number 1: 296-2886-5-ND; Supplier 2: Newark; Supplier Part Number 2: 08F8998; Supplier 3: Mouser; Supplier Part Number 3: 595-TLC1543IDW; Digital Supply(Max)(V): 5.5; Digital Supply(Min)(V): 4.75; Eco-Plan: Green (RoHS & no Sb/Br); Mounting Technology: Surface Mount; Code_JEDEC: MS-013; ComponentLink1Description: Manufacturer URL; ComponentLink1URL: http://www.ti.com/; ComponentLink2Description: Datasheet; ComponentLink2URL: http://www.ti.com/general/docs/lit/getliterature.tsp?genericPartNumber=TLC1550&fileType=pdf; ComponentLink3Description: Package Specification; ComponentLink3URL: http://www.ti.com/litv/pdf/mpds174a
footprint TI-DW24_N (SOIC, 24-Leads, Body 15.4x7.5mm, Pitch 1.27mm, IPC Medium Density)
footprint TI-DW24_L (SOIC, 24-Leads, Body 15.4x7.5mm, Pitch 1.27mm, IPC High Density)
footprint TI-DW24_M (SOIC, 24-Leads, Body 15.4x7.5mm, Pitch 1.27mm, IPC Low Density)
pins: 1 REF+ (in) "Positive voltage-reference input. Any analog input that is greater than or equal to the voltage on REF+ converts to 1111111111. Analog input voltages between REF+ and REF- convert to the appropriate result in a ratiometric (See Datasheet)", 2 REF- (in) "Negative voltage reference input. Any analog input that is less than or equal to the voltage on REF- converts to 0000000000.", 3 ANLG GND (power) "Analog ground. The reference point for the voltage applied on terminals ANLG VDD, AIN, REF+, and REF-.", 4 AIN (in) "Analog voltage input. The voltage applied to AIN is converted to the equivalent digital output.", 5 ANLG VDD (power) "Analog positive power supply voltage. The voltage applied to this terminal is designated VDD3.", 6 DGTL GND1 (power) "Digital ground 1. The ground for power supply DGTL VDD1 and is the substrate connection", 7 DGTL GND2 (power) "Digital ground 2. The ground for power supply DGTL VDD2", 8 DGTL VDD1 (power) "Digital positive power-supply voltage 1. DGTL VDD1 supplies the logic. The voltage applied to DGTL VDD1 is designated VDD1.", 9 DGTL VDD2 (power) "Digital positive power-supply voltage 2. DGTL VDD2 supplies only the higher-current output buffers. The voltage applied to DGTL VDD2 is designated VDD2.", 10 ~{EOC} (out) "End-of-conversion. E\O\C\ goes low indicating that conversion is complete and the results have been transferred to the output latch. E\O\C\ can be connected to the uP- or DSP-interrupt terminal or can be continuously polled", 11 D0 (hiz) "Data bus output. D0 is bit 1 (LSB).", 12 D1 (hiz) "Data bus output. D1 is bit 2.", 13 D2 (hiz) "Data bus output. D2 is bit 3.", 14 D3 (hiz) "Data bus output. D3 is bit 4.", 15 D4 (hiz) "Data bus output. D4 is bit 5.", 16 D5 (hiz) "Data bus output. D5 is bit 6.", 17 D6 (hiz) "Data bus output. D6 is bit 7.", 18 D7 (hiz) "Data bus output. D7 is bit 8.", 19 D8 (hiz) "Data bus output. D8 is bit 9.", 20 D9 (hiz) "Data bus output. D9 is bit 10 (MSB).", 21 ~{CS} (in) "Chip-select. C\S\ must be low for R\D\ or W\R\ to be recognized by the A/D converter.", 22 CLKIN (in) "Clock input. CLKIN is used for external clocking instead of using the internal system clock. It usually takes a few microseconds before the internal clock is disabled. To use the internal clock, CLKIN should be tied high or (See Datasheet)", 23 ~{WR} (in) "Write input. When C\S\ is low, conversion is started on the rising edge of W\R\. On this rising edge, the ADC holds the analog input until conversion is completed. Before and after the conversion period, which is given by (See Datasheet)", 24 ~{RD} (in) "Read input. When C\S\ is low and R\D\ is taken low, the data is placed on the data bus from the output latch. The output latch stores the conversion results at the most recent negative edge of E\O\C\. The falling edge of (See Datasheet)"

## TLC1550IDWR
designator U?
10-Bit, 164 kSPS ADC Parallel Out, Direct I/F to DSP / uProcessor, 10 Channel, -40 to 85 degC, 24-pin SOIC (DW24), Green (RoHS & no Sb/Br); Manufacturer: Texas Instruments; PartNumber: TLC1550IDWR; # Input Channels: 1; Analog Voltage AV/DD(Max)(V): 5.5; Analog Voltage AV/DD(Min)(V): 4.75; Architecture: SAR; INL(Max)(+/-LSB): 0.5; Interface: Parallel CMOS; Resolution(Bits): 10; Sample Rate (max)(SPS): 164k; SubFamily: Precision ADC (<=10MSPS); DatasheetVersion: SLAS043G; PackageVersion: 4040000-5/G, 01/2011; PackageReference: DW24; PackageDescription: 24-Pin Plastic Small Outline, Body 15.4 x 7.5 mm, Pitch 1.27 mm; Supplier 1: Digi-Key; Supplier Part Number 1: TLC1543IDWG4-ND; Supplier 2: Newark; Supplier Part Number 2: 28M7751; Supplier 3: Mouser; Supplier Part Number 3: 595-TLC1543IDWG4; Digital Supply(Max)(V): 5.5; Digital Supply(Min)(V): 4.75; Eco-Plan: Green (RoHS & no Sb/Br); Mounting Technology: Surface Mount; Code_JEDEC: MS-013; ComponentLink1Description: Manufacturer URL; ComponentLink1URL: http://www.ti.com/; ComponentLink2Description: Datasheet; ComponentLink2URL: http://www.ti.com/general/docs/lit/getliterature.tsp?genericPartNumber=TLC1550&fileType=pdf; ComponentLink3Description: Package Specification; ComponentLink3URL: http://www.ti.com/litv/pdf/mpds174a
footprint TI-DW24_N (SOIC, 24-Leads, Body 15.4x7.5mm, Pitch 1.27mm, IPC Medium Density)
footprint TI-DW24_L (SOIC, 24-Leads, Body 15.4x7.5mm, Pitch 1.27mm, IPC High Density)
footprint TI-DW24_M (SOIC, 24-Leads, Body 15.4x7.5mm, Pitch 1.27mm, IPC Low Density)
pins: 1 REF+ (in) "Positive voltage-reference input. Any analog input that is greater than or equal to the voltage on REF+ converts to 1111111111. Analog input voltages between REF+ and REF- convert to the appropriate result in a ratiometric (See Datasheet)", 2 REF- (in) "Negative voltage reference input. Any analog input that is less than or equal to the voltage on REF- converts to 0000000000.", 3 ANLG GND (power) "Analog ground. The reference point for the voltage applied on terminals ANLG VDD, AIN, REF+, and REF-.", 4 AIN (in) "Analog voltage input. The voltage applied to AIN is converted to the equivalent digital output.", 5 ANLG VDD (power) "Analog positive power supply voltage. The voltage applied to this terminal is designated VDD3.", 6 DGTL GND1 (power) "Digital ground 1. The ground for power supply DGTL VDD1 and is the substrate connection", 7 DGTL GND2 (power) "Digital ground 2. The ground for power supply DGTL VDD2", 8 DGTL VDD1 (power) "Digital positive power-supply voltage 1. DGTL VDD1 supplies the logic. The voltage applied to DGTL VDD1 is designated VDD1.", 9 DGTL VDD2 (power) "Digital positive power-supply voltage 2. DGTL VDD2 supplies only the higher-current output buffers. The voltage applied to DGTL VDD2 is designated VDD2.", 10 ~{EOC} (out) "End-of-conversion. E\O\C\ goes low indicating that conversion is complete and the results have been transferred to the output latch. E\O\C\ can be connected to the uP- or DSP-interrupt terminal or can be continuously polled", 11 D0 (hiz) "Data bus output. D0 is bit 1 (LSB).", 12 D1 (hiz) "Data bus output. D1 is bit 2.", 13 D2 (hiz) "Data bus output. D2 is bit 3.", 14 D3 (hiz) "Data bus output. D3 is bit 4.", 15 D4 (hiz) "Data bus output. D4 is bit 5.", 16 D5 (hiz) "Data bus output. D5 is bit 6.", 17 D6 (hiz) "Data bus output. D6 is bit 7.", 18 D7 (hiz) "Data bus output. D7 is bit 8.", 19 D8 (hiz) "Data bus output. D8 is bit 9.", 20 D9 (hiz) "Data bus output. D9 is bit 10 (MSB).", 21 ~{CS} (in) "Chip-select. C\S\ must be low for R\D\ or W\R\ to be recognized by the A/D converter.", 22 CLKIN (in) "Clock input. CLKIN is used for external clocking instead of using the internal system clock. It usually takes a few microseconds before the internal clock is disabled. To use the internal clock, CLKIN should be tied high or (See Datasheet)", 23 ~{WR} (in) "Write input. When C\S\ is low, conversion is started on the rising edge of W\R\. On this rising edge, the ADC holds the analog input until conversion is completed. Before and after the conversion period, which is given by (See Datasheet)", 24 ~{RD} (in) "Read input. When C\S\ is low and R\D\ is taken low, the data is placed on the data bus from the output latch. The output latch stores the conversion results at the most recent negative edge of E\O\C\. The falling edge of (See Datasheet)"

## TLC1550IDWRG4
designator U?
10-Bit, 164 kSPS ADC Parallel Out, Direct I/F to DSP / uProcessor, 10 Channel, -40 to 85 degC, 24-pin SOIC (DW24), Green (RoHS & no Sb/Br); Manufacturer: Texas Instruments; PartNumber: TLC1550IDWRG4; # Input Channels: 1; Analog Voltage AV/DD(Max)(V): 5.5; Analog Voltage AV/DD(Min)(V): 4.75; Architecture: SAR; INL(Max)(+/-LSB): 0.5; Interface: Parallel CMOS; Resolution(Bits): 10; Sample Rate (max)(SPS): 164k; SubFamily: Precision ADC (<=10MSPS); DatasheetVersion: SLAS043G; PackageVersion: 4040000-5/G, 01/2011; PackageReference: DW24; PackageDescription: 24-Pin Plastic Small Outline, Body 15.4 x 7.5 mm, Pitch 1.27 mm; Supplier 1: Digi-Key; Supplier Part Number 1: TLC1543IDWR-ND; Supplier 2: Newark; Supplier Part Number 2: 76C6816; Supplier 3: Mouser; Supplier Part Number 3: 595-TLC1543IDWR; Digital Supply(Max)(V): 5.5; Digital Supply(Min)(V): 4.75; Eco-Plan: Green (RoHS & no Sb/Br); Mounting Technology: Surface Mount; Code_JEDEC: MS-013; ComponentLink1Description: Manufacturer URL; ComponentLink1URL: http://www.ti.com/; ComponentLink2Description: Datasheet; ComponentLink2URL: http://www.ti.com/general/docs/lit/getliterature.tsp?genericPartNumber=TLC1550&fileType=pdf; ComponentLink3Description: Package Specification; ComponentLink3URL: http://www.ti.com/litv/pdf/mpds174a
footprint TI-DW24_N (SOIC, 24-Leads, Body 15.4x7.5mm, Pitch 1.27mm, IPC Medium Density)
footprint TI-DW24_L (SOIC, 24-Leads, Body 15.4x7.5mm, Pitch 1.27mm, IPC High Density)
footprint TI-DW24_M (SOIC, 24-Leads, Body 15.4x7.5mm, Pitch 1.27mm, IPC Low Density)
pins: 1 REF+ (in) "Positive voltage-reference input. Any analog input that is greater than or equal to the voltage on REF+ converts to 1111111111. Analog input voltages between REF+ and REF- convert to the appropriate result in a ratiometric (See Datasheet)", 2 REF- (in) "Negative voltage reference input. Any analog input that is less than or equal to the voltage on REF- converts to 0000000000.", 3 ANLG GND (power) "Analog ground. The reference point for the voltage applied on terminals ANLG VDD, AIN, REF+, and REF-.", 4 AIN (in) "Analog voltage input. The voltage applied to AIN is converted to the equivalent digital output.", 5 ANLG VDD (power) "Analog positive power supply voltage. The voltage applied to this terminal is designated VDD3.", 6 DGTL GND1 (power) "Digital ground 1. The ground for power supply DGTL VDD1 and is the substrate connection", 7 DGTL GND2 (power) "Digital ground 2. The ground for power supply DGTL VDD2", 8 DGTL VDD1 (power) "Digital positive power-supply voltage 1. DGTL VDD1 supplies the logic. The voltage applied to DGTL VDD1 is designated VDD1.", 9 DGTL VDD2 (power) "Digital positive power-supply voltage 2. DGTL VDD2 supplies only the higher-current output buffers. The voltage applied to DGTL VDD2 is designated VDD2.", 10 ~{EOC} (out) "End-of-conversion. E\O\C\ goes low indicating that conversion is complete and the results have been transferred to the output latch. E\O\C\ can be connected to the uP- or DSP-interrupt terminal or can be continuously polled", 11 D0 (hiz) "Data bus output. D0 is bit 1 (LSB).", 12 D1 (hiz) "Data bus output. D1 is bit 2.", 13 D2 (hiz) "Data bus output. D2 is bit 3.", 14 D3 (hiz) "Data bus output. D3 is bit 4.", 15 D4 (hiz) "Data bus output. D4 is bit 5.", 16 D5 (hiz) "Data bus output. D5 is bit 6.", 17 D6 (hiz) "Data bus output. D6 is bit 7.", 18 D7 (hiz) "Data bus output. D7 is bit 8.", 19 D8 (hiz) "Data bus output. D8 is bit 9.", 20 D9 (hiz) "Data bus output. D9 is bit 10 (MSB).", 21 ~{CS} (in) "Chip-select. C\S\ must be low for R\D\ or W\R\ to be recognized by the A/D converter.", 22 CLKIN (in) "Clock input. CLKIN is used for external clocking instead of using the internal system clock. It usually takes a few microseconds before the internal clock is disabled. To use the internal clock, CLKIN should be tied high or (See Datasheet)", 23 ~{WR} (in) "Write input. When C\S\ is low, conversion is started on the rising edge of W\R\. On this rising edge, the ADC holds the analog input until conversion is completed. Before and after the conversion period, which is given by (See Datasheet)", 24 ~{RD} (in) "Read input. When C\S\ is low and R\D\ is taken low, the data is placed on the data bus from the output latch. The output latch stores the conversion results at the most recent negative edge of E\O\C\. The falling edge of (See Datasheet)"